# Altium schematic symbol library SnapEDAsch.SchLib: 1 symbol
Pins are listed as number, name and electrical type; pins without a type are passive.

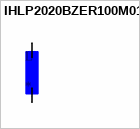
[diagram p0: symbol IHLP2020BZER100M01]

## IHLP2020BZER100M01
designator L
10ÂµH Shielded Molded Inductor 2.3A 199mOhm Max Nonstandard; MP: IHLP2020BZER100M01; MF: Vishay Dale; Price: None; SnapEDA_Link: https://www.snapeda.com/parts/IHLP2020BZER100M01/Vishay%20Dale/view-part/44808/?ref=snap; Availability: Unavailable; Value: *; Package: Nonstandard Vishay
footprint IHLP
pins: 1, 2